# Altium integrated library SignalCommunications.IntLib: 804 symbols (part 10 of 10)
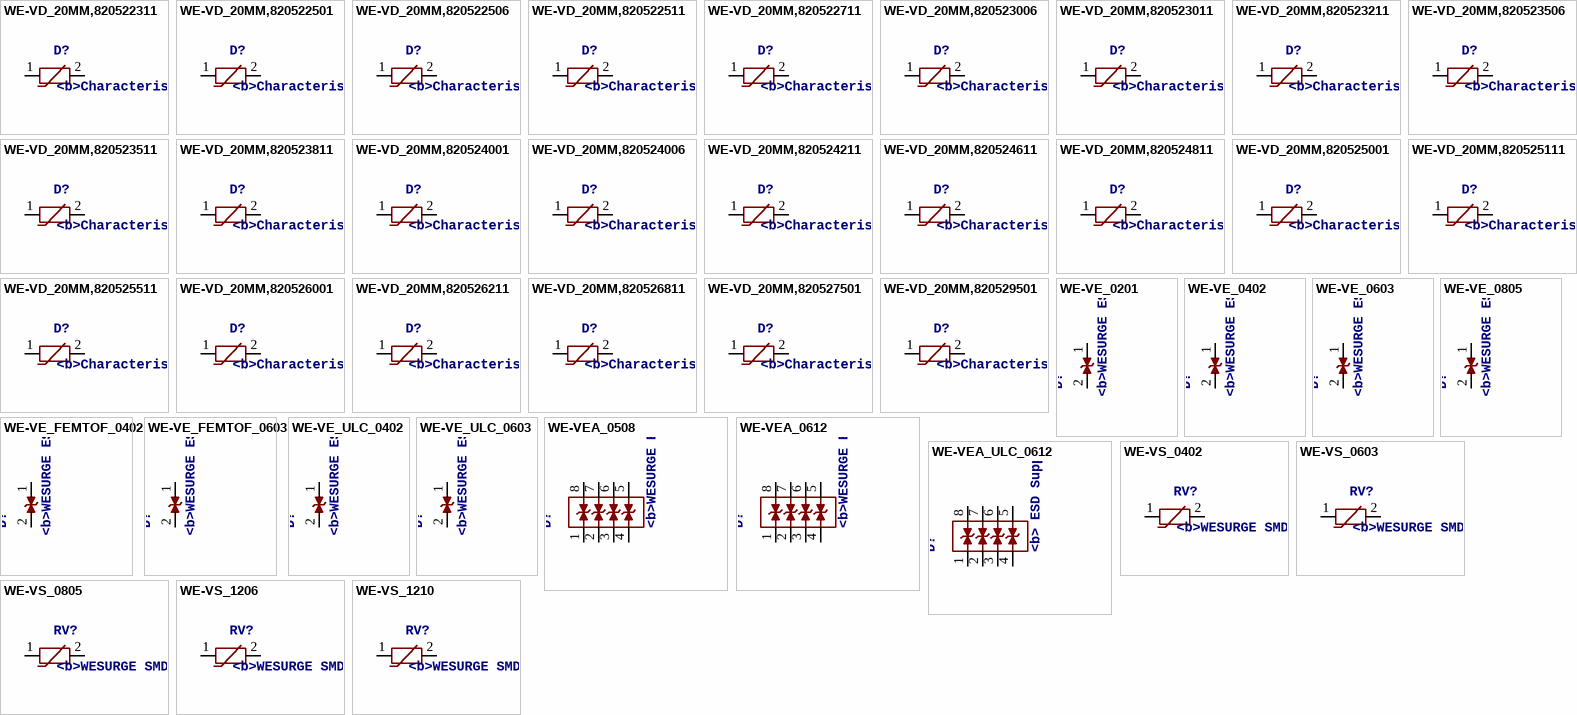
[diagram p51: symbols WE-VD_20MM,820522311 to WE-VS_1210]

## WE-VD_20MM,820523011
designator D?, comment <b>Characteristics:</b> / <pre>•Low clamping voltage / •After a surge impulse the varistor works immediately / in normal mode so there is no slip current / •Excellent absorption at surge impulses</pre><br> / <b>Applications:</b> / <pre> / •12–48 VDC distribution / •110–400 V power supply / •Leakage of voltage peaks / •Surge protection in accordance with EN 61000-4-5 / </pre>
MANUFACTURER: Würth Elektronik eiSos GmbH; CREATED-BY: Christin Zierenner; COMPANY-URL: http://www.we-online.de; CREATED-DATE: May 2012; DATASHEET-URL: http://katalog.we-online.de/kataloge/eisos/index.php?language=en&pf=WE-VD
footprint WE-VD_20MM-1.3
pins: 1, 2

## WE-VD_20MM,820523211
designator D?, comment <b>Characteristics:</b> / <pre>•Low clamping voltage / •After a surge impulse the varistor works immediately / in normal mode so there is no slip current / •Excellent absorption at surge impulses</pre><br> / <b>Applications:</b> / <pre> / •12–48 VDC distribution / •110–400 V power supply / •Leakage of voltage peaks / •Surge protection in accordance with EN 61000-4-5 / </pre>
MANUFACTURER: Würth Elektronik eiSos GmbH; CREATED-BY: Christin Zierenner; COMPANY-URL: http://www.we-online.de; CREATED-DATE: May 2012; DATASHEET-URL: http://katalog.we-online.de/kataloge/eisos/media/pdf/820523211.pdf
footprint WE-VD_20MM-1.5
pins: 1, 2

## WE-VD_20MM,820523506
designator D?, comment <b>Characteristics:</b> / <pre>•Low clamping voltage / •After a surge impulse the varistor works immediately / in normal mode so there is no slip current / •Excellent absorption at surge impulses</pre><br> / <b>Applications:</b> / <pre> / •12–48 VDC distribution / •110–400 V power supply / •Leakage of voltage peaks / •Surge protection in accordance with EN 61000-4-5 / </pre>
MANUFACTURER: Würth Elektronik eiSos GmbH; CREATED-BY: Christin Zierenner; COMPANY-URL: http://www.we-online.de; CREATED-DATE: May 2012; DATASHEET-URL: http://katalog.we-online.de/kataloge/eisos/index.php?language=en&pf=WE-VD
footprint WE-VD_20MM-DIA
pins: 1, 2

## WE-VD_20MM,820523511
designator D?, comment <b>Characteristics:</b> / <pre>•Low clamping voltage / •After a surge impulse the varistor works immediately / in normal mode so there is no slip current / •Excellent absorption at surge impulses</pre><br> / <b>Applications:</b> / <pre> / •12–48 VDC distribution / •110–400 V power supply / •Leakage of voltage peaks / •Surge protection in accordance with EN 61000-4-5 / </pre>
MANUFACTURER: Würth Elektronik eiSos GmbH; CREATED-BY: Christin Zierenner; COMPANY-URL: http://www.we-online.de; CREATED-DATE: May 2012; DATASHEET-URL: http://katalog.we-online.de/kataloge/eisos/index.php?language=en&pf=WE-VD
footprint WE-VD_20MM-1.7
pins: 1, 2

## WE-VD_20MM,820523811
designator D?, comment <b>Characteristics:</b> / <pre>•Low clamping voltage / •After a surge impulse the varistor works immediately / in normal mode so there is no slip current / •Excellent absorption at surge impulses</pre><br> / <b>Applications:</b> / <pre> / •12–48 VDC distribution / •110–400 V power supply / •Leakage of voltage peaks / •Surge protection in accordance with EN 61000-4-5 / </pre>
MANUFACTURER: Würth Elektronik eiSos GmbH; CREATED-BY: Christin Zierenner; COMPANY-URL: http://www.we-online.de; CREATED-DATE: May 2012; DATASHEET-URL: http://katalog.we-online.de/kataloge/eisos/index.php?language=en&pf=WE-VD
footprint WE-VD_20MM-2.0
pins: 1, 2

## WE-VD_20MM,820524001
designator D?, comment <b>Characteristics:</b> / <pre>•Low clamping voltage / •After a surge impulse the varistor works immediately / in normal mode so there is no slip current / •Excellent absorption at surge impulses</pre><br> / <b>Applications:</b> / <pre> / •12–48 VDC distribution / •110–400 V power supply / •Leakage of voltage peaks / •Surge protection in accordance with EN 61000-4-5 / </pre>
MANUFACTURER: Würth Elektronik eiSos GmbH; CREATED-BY: Christin Zierenner; COMPANY-URL: http://www.we-online.de; CREATED-DATE: May 2012; DATASHEET-URL: http://katalog.we-online.de/kataloge/eisos/index.php?language=en&pf=WE-VD
footprint WE-VD_20MM-1.1
pins: 1, 2

## WE-VD_20MM,820524006
designator D?, comment <b>Characteristics:</b> / <pre>•Low clamping voltage / •After a surge impulse the varistor works immediately / in normal mode so there is no slip current / •Excellent absorption at surge impulses</pre><br> / <b>Applications:</b> / <pre> / •12–48 VDC distribution / •110–400 V power supply / •Leakage of voltage peaks / •Surge protection in accordance with EN 61000-4-5 / </pre>
MANUFACTURER: Würth Elektronik eiSos GmbH; CREATED-BY: Christin Zierenner; COMPANY-URL: http://www.we-online.de; CREATED-DATE: May 2012; DATASHEET-URL: http://katalog.we-online.de/kataloge/eisos/index.php?language=en&pf=WE-VD
footprint WE-VD_20MM-1.1
pins: 1, 2

## WE-VD_20MM,820524211
designator D?, comment <b>Characteristics:</b> / <pre>•Low clamping voltage / •After a surge impulse the varistor works immediately / in normal mode so there is no slip current / •Excellent absorption at surge impulses</pre><br> / <b>Applications:</b> / <pre> / •12–48 VDC distribution / •110–400 V power supply / •Leakage of voltage peaks / •Surge protection in accordance with EN 61000-4-5 / </pre>
MANUFACTURER: Würth Elektronik eiSos GmbH; CREATED-BY: Christin Zierenner; COMPANY-URL: http://www.we-online.de; CREATED-DATE: May 2012; DATASHEET-URL: http://katalog.we-online.de/kataloge/eisos/index.php?language=en&pf=WE-VD
footprint WE-VD_20MM-2.3
pins: 1, 2

## WE-VD_20MM,820524611
designator D?, comment <b>Characteristics:</b> / <pre>•Low clamping voltage / •After a surge impulse the varistor works immediately / in normal mode so there is no slip current / •Excellent absorption at surge impulses</pre><br> / <b>Applications:</b> / <pre> / •12–48 VDC distribution / •110–400 V power supply / •Leakage of voltage peaks / •Surge protection in accordance with EN 61000-4-5 / </pre>
MANUFACTURER: Würth Elektronik eiSos GmbH; CREATED-BY: Christin Zierenner; COMPANY-URL: http://www.we-online.de; CREATED-DATE: May 2012; DATASHEET-URL: http://katalog.we-online.de/kataloge/eisos/media/pdf/820524611.pdf
footprint WE-VD_20MM-2.6
pins: 1, 2

## WE-VD_20MM,820524811
designator D?, comment <b>Characteristics:</b> / <pre>•Low clamping voltage / •After a surge impulse the varistor works immediately / in normal mode so there is no slip current / •Excellent absorption at surge impulses</pre><br> / <b>Applications:</b> / <pre> / •12–48 VDC distribution / •110–400 V power supply / •Leakage of voltage peaks / •Surge protection in accordance with EN 61000-4-5 / </pre>
MANUFACTURER: Würth Elektronik eiSos GmbH; CREATED-BY: Christin Zierenner; COMPANY-URL: http://www.we-online.de; CREATED-DATE: May 2012; DATASHEET-URL: http://katalog.we-online.de/kataloge/eisos/index.php?language=en&pf=WE-VD
footprint WE-VD_20MM-2.8
pins: 1, 2

## WE-VD_20MM,820525001
designator D?, comment <b>Characteristics:</b> / <pre>•Low clamping voltage / •After a surge impulse the varistor works immediately / in normal mode so there is no slip current / •Excellent absorption at surge impulses</pre><br> / <b>Applications:</b> / <pre> / •12–48 VDC distribution / •110–400 V power supply / •Leakage of voltage peaks / •Surge protection in accordance with EN 61000-4-5 / </pre>
MANUFACTURER: Würth Elektronik eiSos GmbH; CREATED-BY: Christin Zierenner; COMPANY-URL: http://www.we-online.de; CREATED-DATE: May 2012; DATASHEET-URL: http://katalog.we-online.de/kataloge/eisos/index.php?language=en&pf=WE-VD
footprint WE-VD_20MM-1.2
pins: 1, 2

## WE-VD_20MM,820525111
designator D?, comment <b>Characteristics:</b> / <pre>•Low clamping voltage / •After a surge impulse the varistor works immediately / in normal mode so there is no slip current / •Excellent absorption at surge impulses</pre><br> / <b>Applications:</b> / <pre> / •12–48 VDC distribution / •110–400 V power supply / •Leakage of voltage peaks / •Surge protection in accordance with EN 61000-4-5 / </pre>
MANUFACTURER: Würth Elektronik eiSos GmbH; CREATED-BY: Christin Zierenner; COMPANY-URL: http://www.we-online.de; CREATED-DATE: May 2012; DATASHEET-URL: http://katalog.we-online.de/kataloge/eisos/index.php?language=en&pf=WE-VD
footprint WE-VD_20MM-2.9
pins: 1, 2

## WE-VD_20MM,820525511
designator D?, comment <b>Characteristics:</b> / <pre>•Low clamping voltage / •After a surge impulse the varistor works immediately / in normal mode so there is no slip current / •Excellent absorption at surge impulses</pre><br> / <b>Applications:</b> / <pre> / •12–48 VDC distribution / •110–400 V power supply / •Leakage of voltage peaks / •Surge protection in accordance with EN 61000-4-5 / </pre>
MANUFACTURER: Würth Elektronik eiSos GmbH; CREATED-BY: Christin Zierenner; COMPANY-URL: http://www.we-online.de; CREATED-DATE: May 2012; DATASHEET-URL: http://katalog.we-online.de/kataloge/eisos/media/pdf/820525511.pdf
footprint WE-VD_20MM-3.4
pins: 1, 2

## WE-VD_20MM,820526001
designator D?, comment <b>Characteristics:</b> / <pre>•Low clamping voltage / •After a surge impulse the varistor works immediately / in normal mode so there is no slip current / •Excellent absorption at surge impulses</pre><br> / <b>Applications:</b> / <pre> / •12–48 VDC distribution / •110–400 V power supply / •Leakage of voltage peaks / •Surge protection in accordance with EN 61000-4-5 / </pre>
MANUFACTURER: Würth Elektronik eiSos GmbH; CREATED-BY: Christin Zierenner; COMPANY-URL: http://www.we-online.de; CREATED-DATE: May 2012; DATASHEET-URL: http://katalog.we-online.de/kataloge/eisos/index.php?language=en&pf=WE-VD
footprint WE-VD_20MM-DIA
pins: 1, 2

## WE-VD_20MM,820526211
designator D?, comment <b>Characteristics:</b> / <pre>•Low clamping voltage / •After a surge impulse the varistor works immediately / in normal mode so there is no slip current / •Excellent absorption at surge impulses</pre><br> / <b>Applications:</b> / <pre> / •12–48 VDC distribution / •110–400 V power supply / •Leakage of voltage peaks / •Surge protection in accordance with EN 61000-4-5 / </pre>
MANUFACTURER: Würth Elektronik eiSos GmbH; CREATED-BY: Christin Zierenner; COMPANY-URL: http://www.we-online.de; CREATED-DATE: May 2012; DATASHEET-URL: http://katalog.we-online.de/kataloge/eisos/index.php?language=en&pf=WE-VD
footprint WE-VD_20MM-3.8
pins: 1, 2

## WE-VD_20MM,820526811
designator D?, comment <b>Characteristics:</b> / <pre>•Low clamping voltage / •After a surge impulse the varistor works immediately / in normal mode so there is no slip current / •Excellent absorption at surge impulses</pre><br> / <b>Applications:</b> / <pre> / •12–48 VDC distribution / •110–400 V power supply / •Leakage of voltage peaks / •Surge protection in accordance with EN 61000-4-5 / </pre>
MANUFACTURER: Würth Elektronik eiSos GmbH; CREATED-BY: Christin Zierenner; COMPANY-URL: http://www.we-online.de; CREATED-DATE: May 2012; DATASHEET-URL: http://katalog.we-online.de/kataloge/eisos/media/pdf/820526811.pdf
footprint WE-VD_20MM-4.3
pins: 1, 2

## WE-VD_20MM,820527501
designator D?, comment <b>Characteristics:</b> / <pre>•Low clamping voltage / •After a surge impulse the varistor works immediately / in normal mode so there is no slip current / •Excellent absorption at surge impulses</pre><br> / <b>Applications:</b> / <pre> / •12–48 VDC distribution / •110–400 V power supply / •Leakage of voltage peaks / •Surge protection in accordance with EN 61000-4-5 / </pre>
MANUFACTURER: Würth Elektronik eiSos GmbH; CREATED-BY: Christin Zierenner; COMPANY-URL: http://www.we-online.de; CREATED-DATE: May 2012; DATASHEET-URL: http://katalog.we-online.de/kataloge/eisos/media/pdf/820527501.pdf
footprint WE-VD_20MM-DIA
pins: 1, 2

## WE-VD_20MM,820529501
designator D?, comment <b>Characteristics:</b> / <pre>•Low clamping voltage / •After a surge impulse the varistor works immediately / in normal mode so there is no slip current / •Excellent absorption at surge impulses</pre><br> / <b>Applications:</b> / <pre> / •12–48 VDC distribution / •110–400 V power supply / •Leakage of voltage peaks / •Surge protection in accordance with EN 61000-4-5 / </pre>
MANUFACTURER: Würth Elektronik eiSos GmbH; CREATED-BY: Christin Zierenner; COMPANY-URL: http://www.we-online.de; CREATED-DATE: May 2012; DATASHEET-URL: http://katalog.we-online.de/kataloge/eisos/index.php?language=en&pf=WE-VD
footprint WE-VD_20MM-DIA
pins: 1, 2

## WE-VE_0201
designator D?, comment <b>WESURGE ESD Suppressor WE-VE</b><br><br> / - Fast response time<br> / - No leakage current<br> / - Low clamping voltage<br> / - Almost no energy consumption in stand-by mode<br> / - Excellent absorption for ESD-impulses<br> / - Designed to meet the EN 61000-4-2 standard<br> / - Nickel barrier<br> / - Operating temperature: -40°C to +85°C<br><br> / -- Protection of data lines<br> / -- Protection of bus system<br> / -- Protection of semiconductors<br> / -- ESD protection in accordance with EN 61000-4-2; 8 kV contact discharge / 15 kV air discharge
footprint WESURGE_0201
pins: 1, 2

## WE-VE_0402
designator D?, comment <b>WESURGE ESD Suppressor WE-VE</b><br><br> / - Fast response time<br> / - No leakage current<br> / - Low clamping voltage<br> / - Almost no energy consumption in stand-by mode<br> / - Excellent absorption for ESD-impulses<br> / - Designed to meet the EN 61000-4-2 standard<br> / - Nickel barrier<br> / - Operating temperature: -40°C to +85°C<br><br> / -- Protection of data lines<br> / -- Protection of bus system<br> / -- Protection of semiconductors<br> / -- ESD protection in accordance with EN 61000-4-2; 8 kV contact discharge / 15 kV air discharge
footprint WESURGE_0402
pins: 1, 2

## WE-VE_0603
designator D?, comment <b>WESURGE ESD Suppressor WE-VE</b><br><br> / - Fast response time<br> / - No leakage current<br> / - Low clamping voltage<br> / - Almost no energy consumption in stand-by mode<br> / - Excellent absorption for ESD-impulses<br> / - Designed to meet the EN 61000-4-2 standard<br> / - Nickel barrier<br> / - Operating temperature: -40°C to +85°C<br><br> / -- Protection of data lines<br> / -- Protection of bus system<br> / -- Protection of semiconductors<br> / -- ESD protection in accordance with EN 61000-4-2; 8 kV contact discharge / 15 kV air discharge
footprint WESURGE_0603
pins: 1, 2

## WE-VE_0805
designator D?, comment <b>WESURGE ESD Suppressor WE-VE</b><br><br> / - Fast response time<br> / - No leakage current<br> / - Low clamping voltage<br> / - Almost no energy consumption in stand-by mode<br> / - Excellent absorption for ESD-impulses<br> / - Designed to meet the EN 61000-4-2 standard<br> / - Nickel barrier<br> / - Operating temperature: -40°C to +85°C<br><br> / -- Protection of data lines<br> / -- Protection of bus system<br> / -- Protection of semiconductors<br> / -- ESD protection in accordance with EN 61000-4-2; 8 kV contact discharge / 15 kV air discharge
footprint WESURGE_0805
pins: 1, 2

## WE-VE_FEMTOF_0402
designator D?, comment <b>WESURGE ESD Suppressor WE-VE femtoF</b><br><br> / - low capacitance: 0,05 pF<br> / - Low leakage current: 1 nA<br> / - ESD electrical strenght >2000 impulses<br> / - Bi-directional protection<br> / - ESD protection > 15 kV<br> / - high reliability<br> / - Nickel barrier<br><br> / -- Antenna<br> / -- HDMI / DVI / VGA<br> / -- USB 2.0 / IEEE1394<br> / -- Lan 10 GBit
footprint 0402
pins: 1, 2

## WE-VE_FEMTOF_0603
designator D?, comment <b>WESURGE ESD Suppressor WE-VE femtoF</b><br><br> / - low capacitance: 0,05 pF<br> / - Low leakage current: 1 nA<br> / - ESD electrical strenght >2000 impulses<br> / - Bi-directional protection<br> / - ESD protection > 15 kV<br> / - high reliability<br> / - Nickel barrier<br><br> / -- Antenna<br> / -- HDMI / DVI / VGA<br> / -- USB 2.0 / IEEE1394<br> / -- Lan 10 GBit
footprint 0603
pins: 1, 2

## WE-VE_ULC_0402
designator D?, comment <b>WESURGE ESD Suppressor WE-VE ULC</b><br><br> / - Ultra Low Capacitance<br> / - Fast response time<br> / - No leakage current<br> / - Low clamping voltage<br> / - Almost no energy consumption in stand-by mode<br> / - Excellent absorption for ESD-impulses<br> / - Nickel barrier<br> / - Operating temperature: -40°C to +85°C<br><br> / -- Protection of data lines<br> / -- Protection of bus system<br> / -- Protection of semiconductors<br> / -- ESD protection in accordance with EN 61000-4-2; 8 kV contact discharge / 15 kV air discharge
footprint WESURGE_0402
pins: 1, 2

## WE-VE_ULC_0603
designator D?, comment <b>WESURGE ESD Suppressor WE-VE ULC</b><br><br> / - Ultra Low Capacitance<br> / - Fast response time<br> / - No leakage current<br> / - Low clamping voltage<br> / - Almost no energy consumption in stand-by mode<br> / - Excellent absorption for ESD-impulses<br> / - Nickel barrier<br> / - Operating temperature: -40°C to +85°C<br><br> / -- Protection of data lines<br> / -- Protection of bus system<br> / -- Protection of semiconductors<br> / -- ESD protection in accordance with EN 61000-4-2; 8 kV contact discharge / 15 kV air discharge
footprint WESURGE_0603
pins: 1, 2

## WE-VEA_0508
designator D?, comment <b>WESURGE ESD Suppressor-Array WE-VEA</b><br><br> / - Fast response time (1 ns)<br> / - Low signal insertion loss<br> / - No leakage current<br> / - Low clamping voltage<br> / - Almost no energy consumption in stand-by mode<br> / - Excellent absorption for ESD-impulses<br><br> / -- Protection data lines<br> / -- Protection of bus systems<br> / -- Protection of video transmission lines <br> / -- Protection of semiconductors<br> / -- ESD protection in accordance with EN 61000-4-2
footprint WE-VEA_0508
pins: 1, 2, 3, 4, 5, 6, 7, 8

## WE-VEA_0612
designator D?, comment <b>WESURGE ESD Suppressor-Array WE-VEA</b><br><br> / - Fast response time (1 ns)<br> / - Low signal insertion loss<br> / - No leakage current<br> / - Low clamping voltage<br> / - Almost no energy consumption in stand-by mode<br> / - Excellent absorption for ESD-impulses<br><br> / -- Protection data lines<br> / -- Protection of bus systems<br> / -- Protection of video transmission lines <br> / -- Protection of semiconductors<br> / -- ESD protection in accordance with EN 61000-4-2
footprint WE-VEA_0612
pins: 1, 2, 3, 4, 5, 6, 7, 8

## WE-VEA_ULC_0612
designator D?, comment <b> ESD Suppressor-Array WE-VEA ULC</b><br><br> / - Fast response time (1 ns)<br> / - Low signal insertion loss<br> / - No leakage current<br> / - Low clamping voltage<br> / - Almost no energy consumption in stand-by mode<br> / - Excellent absorption for ESD-impulses<br><br> / -- Protection data lines<br> / -- Protection of bus systems<br> / -- Protection of video transmission lines <br> / -- Protection of semiconductors<br> / -- ESD protection in accordance with EN 61000-4-2
footprint WE-VEA_0612
pins: 1, 2, 3, 4, 5, 6, 7, 8

## WE-VS_0402
designator RV?, comment <b>WESURGE SMD Varistor WE-VS</b><br><br> / - Fast response time<br> / - Low leakage current<br> / - Low clamping voltage<br> / - Wide range of voltage avaible<br> / - Almost no energy consumption in stand-by mode<br> / - Excellent absorption at surge-impulses<br> / - Nickel barrier for  leadfree soldering<br> / - Operating temperature: -40°C to +85°C for size 0402 to 0805; / -40°C to +1255°C for size 1206 to 2220<br><br> / -- Protection of DC distribution<br> / -- Protection of power supply<br> / -- Protection of semiconductors<br> / -- Protection of bus systems and communication lines<br> / -- Limiting of over-voltage <br> / -- ESD protection in accordance with EN 61000-4-2 and Surge protection in accordance with EN 61000-4-5
footprint WESURGE_0402
pins: 1, 2

## WE-VS_0603
designator RV?, comment <b>WESURGE SMD Varistor WE-VS</b><br><br> / - Fast response time<br> / - Low leakage current<br> / - Low clamping voltage<br> / - Wide range of voltage avaible<br> / - Almost no energy consumption in stand-by mode<br> / - Excellent absorption at surge-impulses<br> / - Nickel barrier for  leadfree soldering<br> / - Operating temperature: -40°C to +85°C for size 0402 to 0805; / -40°C to +1255°C for size 1206 to 2220<br><br> / -- Protection of DC distribution<br> / -- Protection of power supply<br> / -- Protection of semiconductors<br> / -- Protection of bus systems and communication lines<br> / -- Limiting of over-voltage <br> / -- ESD protection in accordance with EN 61000-4-2 and Surge protection in accordance with EN 61000-4-5
footprint WESURGE_0603
pins: 1, 2

## WE-VS_0805
designator RV?, comment <b>WESURGE SMD Varistor WE-VS</b><br><br> / - Fast response time<br> / - Low leakage current<br> / - Low clamping voltage<br> / - Wide range of voltage avaible<br> / - Almost no energy consumption in stand-by mode<br> / - Excellent absorption at surge-impulses<br> / - Nickel barrier for  leadfree soldering<br> / - Operating temperature: -40°C to +85°C for size 0402 to 0805; / -40°C to +1255°C for size 1206 to 2220<br><br> / -- Protection of DC distribution<br> / -- Protection of power supply<br> / -- Protection of semiconductors<br> / -- Protection of bus systems and communication lines<br> / -- Limiting of over-voltage <br> / -- ESD protection in accordance with EN 61000-4-2 and Surge protection in accordance with EN 61000-4-5
footprint WESURGE_0805
pins: 1, 2

## WE-VS_1206
designator RV?, comment <b>WESURGE SMD Varistor WE-VS</b><br><br> / - Fast response time<br> / - Low leakage current<br> / - Low clamping voltage<br> / - Wide range of voltage avaible<br> / - Almost no energy consumption in stand-by mode<br> / - Excellent absorption at surge-impulses<br> / - Nickel barrier for  leadfree soldering<br> / - Operating temperature: -40°C to +85°C for size 0402 to 0805; / -40°C to +1255°C for size 1206 to 2220<br><br> / -- Protection of DC distribution<br> / -- Protection of power supply<br> / -- Protection of semiconductors<br> / -- Protection of bus systems and communication lines<br> / -- Limiting of over-voltage <br> / -- ESD protection in accordance with EN 61000-4-2 and Surge protection in accordance with EN 61000-4-5
footprint WESURGE_1206
pins: 1, 2

## WE-VS_1210
designator RV?, comment <b>WESURGE SMD Varistor WE-VS</b><br><br> / - Fast response time<br> / - Low leakage current<br> / - Low clamping voltage<br> / - Wide range of voltage avaible<br> / - Almost no energy consumption in stand-by mode<br> / - Excellent absorption at surge-impulses<br> / - Nickel barrier for  leadfree soldering<br> / - Operating temperature: -40°C to +85°C for size 0402 to 0805; / -40°C to +1255°C for size 1206 to 2220<br><br> / -- Protection of DC distribution<br> / -- Protection of power supply<br> / -- Protection of semiconductors<br> / -- Protection of bus systems and communication lines<br> / -- Limiting of over-voltage <br> / -- ESD protection in accordance with EN 61000-4-2 and Surge protection in accordance with EN 61000-4-5
footprint WESURGE_1210
pins: 1, 2

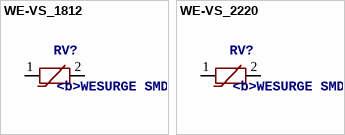
[diagram p42: symbols WE-VS_1812 to WE-VS_2220]

## WE-VS_1812
designator RV?, comment <b>WESURGE SMD Varistor WE-VS</b><br><br> / - Fast response time<br> / - Low leakage current<br> / - Low clamping voltage<br> / - Wide range of voltage avaible<br> / - Almost no energy consumption in stand-by mode<br> / - Excellent absorption at surge-impulses<br> / - Nickel barrier for  leadfree soldering<br> / - Operating temperature: -40°C to +85°C for size 0402 to 0805; / -40°C to +1255°C for size 1206 to 2220<br><br> / -- Protection of DC distribution<br> / -- Protection of power supply<br> / -- Protection of semiconductors<br> / -- Protection of bus systems and communication lines<br> / -- Limiting of over-voltage <br> / -- ESD protection in accordance with EN 61000-4-2 and Surge protection in accordance with EN 61000-4-5
footprint WESURGE_1812
pins: 1, 2

## WE-VS_2220
designator RV?, comment <b>WESURGE SMD Varistor WE-VS</b><br><br> / - Fast response time<br> / - Low leakage current<br> / - Low clamping voltage<br> / - Wide range of voltage avaible<br> / - Almost no energy consumption in stand-by mode<br> / - Excellent absorption at surge-impulses<br> / - Nickel barrier for  leadfree soldering<br> / - Operating temperature: -40°C to +85°C for size 0402 to 0805; / -40°C to +1255°C for size 1206 to 2220<br><br> / -- Protection of DC distribution<br> / -- Protection of power supply<br> / -- Protection of semiconductors<br> / -- Protection of bus systems and communication lines<br> / -- Limiting of over-voltage <br> / -- ESD protection in accordance with EN 61000-4-2 and Surge protection in accordance with EN 61000-4-5
footprint WESURGE_2220
pins: 1, 2